# Altium schematic symbol library hotair.SchLib: 1 symbol
Pins are listed as number, name and electrical type; pins without a type are passive.

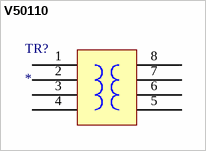
[diagram p0: symbol V50110]

## V50110
designator TR?
footprint V50110
pins: 1, 2, 3, 4, 5, 6, 7, 8